# EAGLE library part SIM-SLOT-6PIN+CD (library GTA04b7)
SIM Slot with 6 contact pins
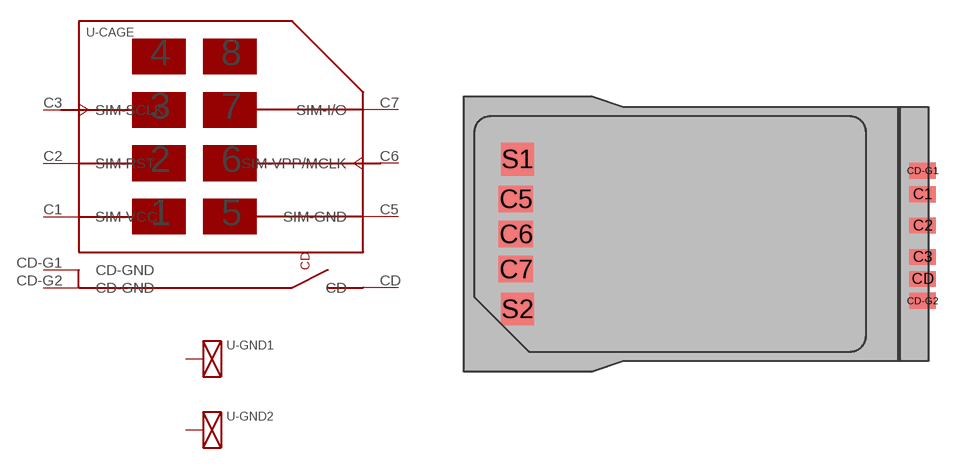
[diagram p39: symbol with the pads of SJ106220; footprint SJ106220]

Designator prefix -; gates -CAGE=SIM-SLOT-6-CD -GND1=SHIELD -GND2=SHIELD

## SIM-SLOT-6PIN+CD  [SJ106220]
C1  -CAGE:SIM-VCC  pwr
C2  -CAGE:SIM-RST  in
C3  -CAGE:SIM-SCLK  in
C5  -CAGE:SIM-GND  pwr
C6  -CAGE:SIM-VPP/MCLK  in
C7  -CAGE:SIM-I/O
CD  -CAGE:CD  pas
CD-G1  -CAGE:CD-GND  pwr
CD-G2  -CAGE:CD-GND  pwr
S1  -GND1:SHIELD  pwr
S2  -GND2:SHIELD  pwr

## Footprint SJ106220 (pad centres in mm)
JAE SIM Reader SJ106220 with 6 pins
smd 1.7 x 1: C1 12.11,2.54; C2 12.11,0.54; C3 12.11,-1.46; CD 12.11,-2.86; CD-G1 12.11,4.04; CD-G2 12.11,-4.26
smd 2.2 x 1.7: C5 -13.84,2.24; C6 -13.84,0; C7 -13.84,-2.24
smd 2.1 x 2.1: S1 -13.75,4.78; S2 -13.75,-4.78